# Altium footprint library SOT230P700X180-4N.PcbLib: 1 footprints
Each footprint in its own frame and in the unit in brackets; x right, y up, seen from the top. Pads: shape width x height; smd on the part's side, far side on the other; paste and mask are expansions set on the pad; w line width, h text height; cw(c..) or ccw(c..) is an arc to the next point about the centre after c.
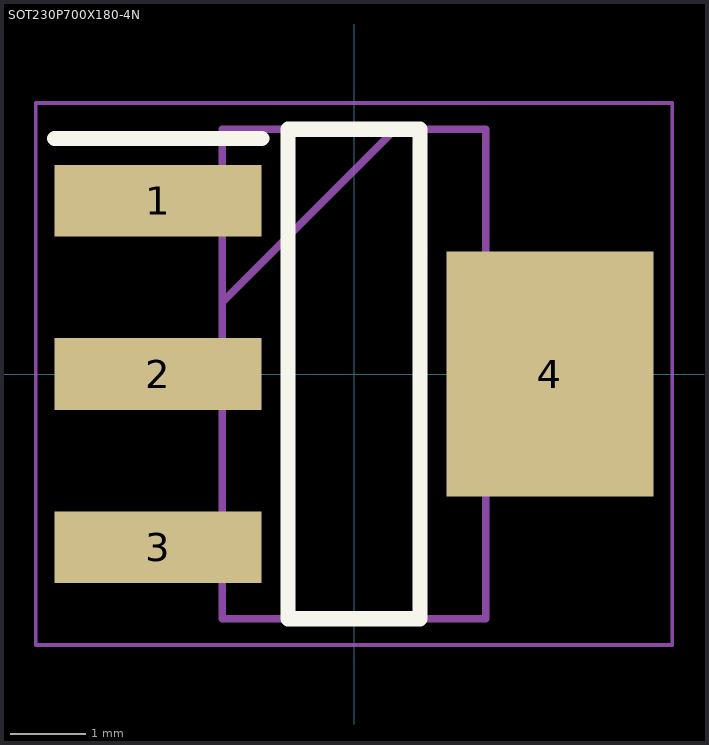
[diagram p0: the footprint, top view; thin cyan lines are the x and y axes]

## SOT230P700X180-4N [mm]
pads (4):
  rect 2.75x0.95 smd: 1(-2.6,2.3) 2(-2.6,0) 3(-2.6,-2.3)
  rect 2.75x3.25 smd: 4(2.6,0)
Top Overlay:
  lines w0.2: -3.975,3.125 -1.225,3.125 ; -0.875,-3.25 0.875,-3.25 0.875,3.25 -0.875,3.25 -0.875,-3.25
Mechanical 15:
  lines w0.1: -1.75,0.95 0.55,3.25 ; -1.75,-3.25 1.75,-3.25 1.75,3.25 -1.75,3.25 -1.75,-3.25
Mechanical 20:
  lines w0.05: -4.225,-3.6 4.225,-3.6 4.225,3.6 -4.225,3.6 -4.225,-3.6
3D body "LDL1117S50R.stp": height 5.8, standoff -4.65, extent -10,-3.376 10,3.376